# Altium footprint library DiodesTHD.PcbLib: 51 footprints (part 3 of 4)
Each footprint in its own frame and in the unit in brackets; x right, y up, seen from the top. Pads: shape width x height; smd on the part's side, far side on the other; paste and mask are expansions set on the pad; w line width, h text height; cw(c..) or ccw(c..) is an arc to the next point about the centre after c.
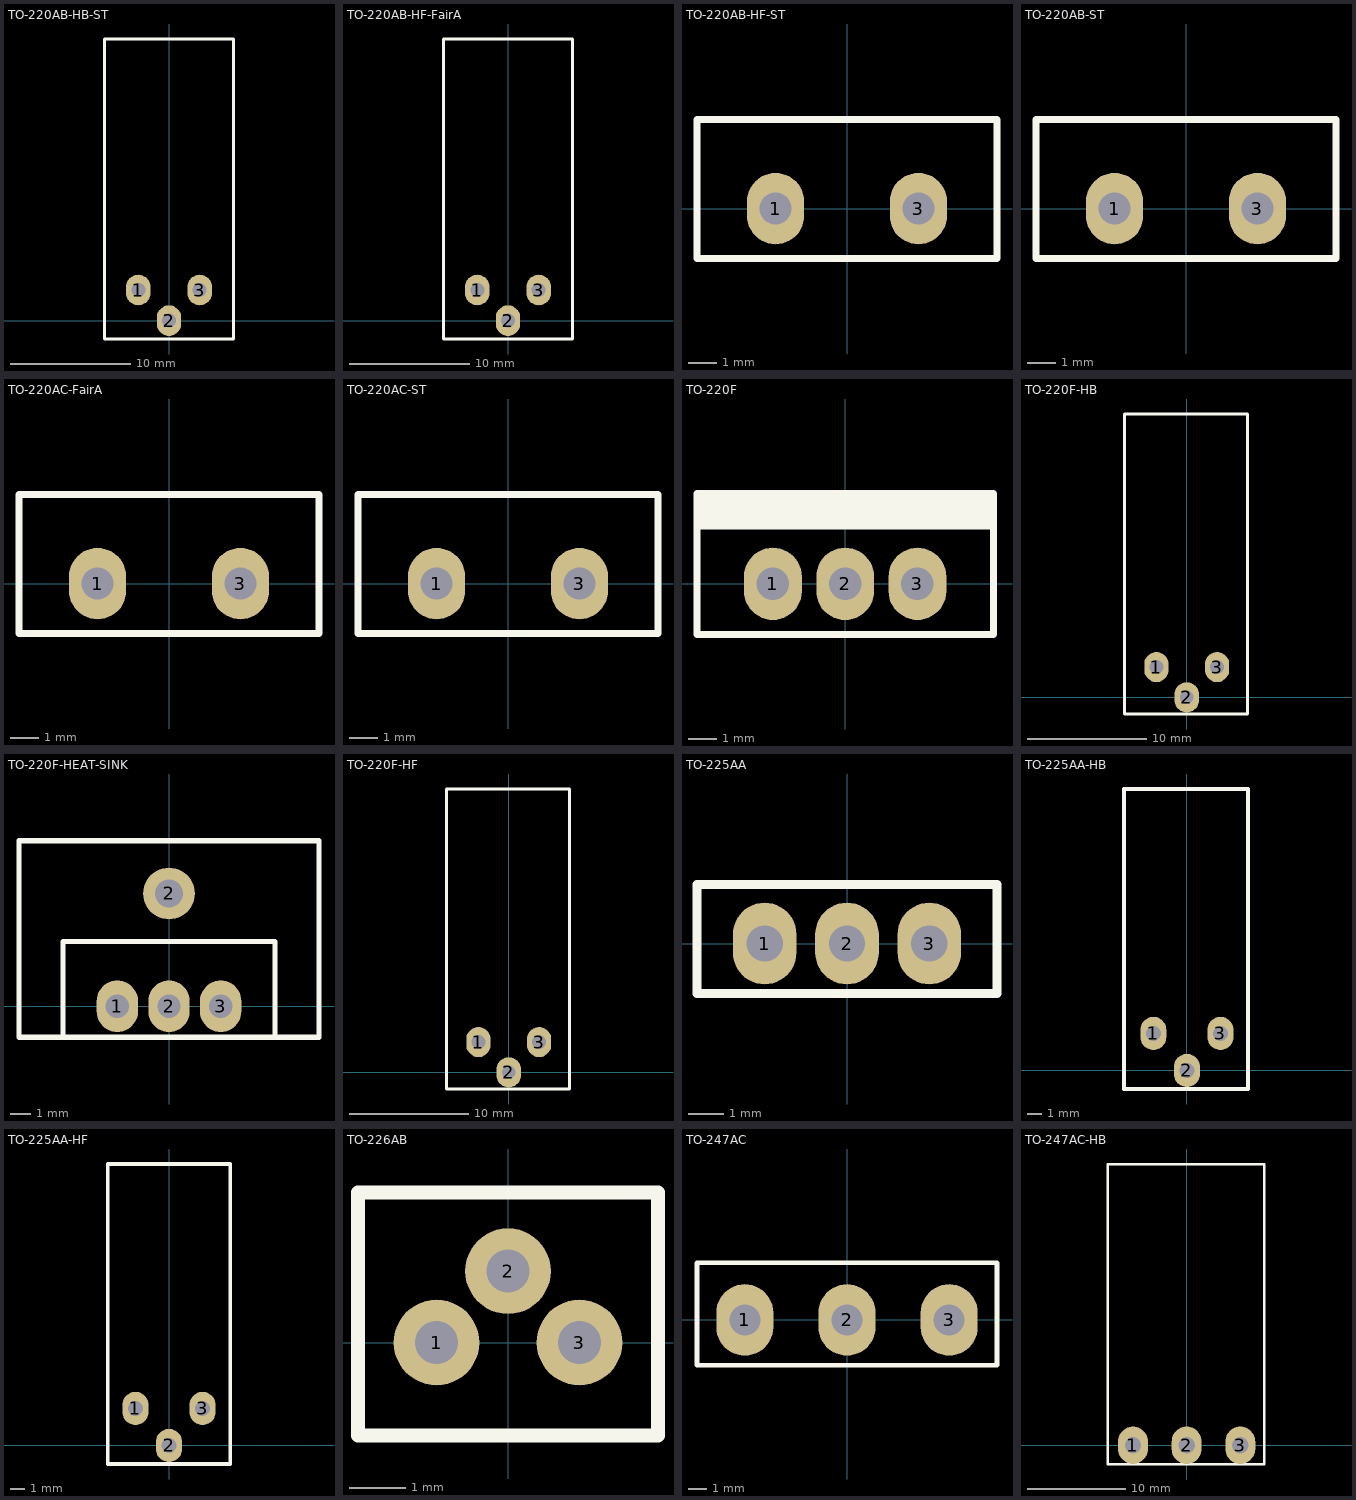
[diagram p2: the footprints below, top view; thin cyan lines are the x and y axes]

## TO-220AB-HB-ST [mil]
pads (3):
  oval 80x100 hole 45: 1(-100,100) 2(0,0) 3(100,100)
Top Overlay:
  lines w10: -210,-60 210,-60 210,920 -210,920 -210,-60
3D body "TO-220AB-HB-ST.stp": height 188.98, standoff -208.68, extent -209.64,-11.8 209.65,918.12

## TO-220AB-HF-FairA [mil]
pads (3):
  oval 80x100 hole 45: 1(-100,100) 2(0,0) 3(100,100)
Top Overlay:
  lines w10: -210,-60 210,-60 210,920 -210,920 -210,-60
3D body "TO-220AB-HF-FairA.stp": height 188.98, standoff -263.8, extent -209.64,-11.8 209.65,918.12

## TO-220AB-HF-ST [mil]
pads (2):
  oval 80x100 hole 45: 1(-100,0) 3(100,0)
Top Overlay:
  lines w10: -210,-70 210,-70 210,125 -210,125 -210,-70
3D body "TO-220AC-ST.stp": height 767.72, standoff -362.2, extent -209.64,-66.92 209.65,122.05

## TO-220AB-ST [mil]
pads (2):
  oval 80x100 hole 45: 1(-100,0) 3(100,0)
Top Overlay:
  lines w10: -210,-70 210,-70 210,125 -210,125 -210,-70
3D body "TO-220AC-ST.stp": height 767.72, standoff -362.2, extent -209.64,-66.92 209.65,122.05

## TO-220AC-FairA [mil]
pads (2):
  oval 80x100 hole 45: 1(-100,0) 3(100,0)
Top Overlay:
  lines w10: -210,-70 210,-70 210,125 -210,125 -210,-70
3D body "TO-220AC-FairA.stp": height 767.72, standoff -362.2, extent -209.64,-66.92 209.65,122.05

## TO-220AC-ST [mil]
pads (2):
  oval 80x100 hole 45: 1(-100,0) 3(100,0)
Top Overlay:
  lines w10: -210,-70 210,-70 210,125 -210,125 -210,-70
3D body "TO-220AC-ST.stp": height 767.72, standoff -362.2, extent -209.64,-66.92 209.65,122.05

## TO-220F [mil]
pads (3):
  oval 80x100 hole 45: 1(-100,0) 2(0,0) 3(100,0)
Top Overlay:
  rectangle: -205,75 210,125
  lines w10: -205,-70 205,-70 205,125 -205,125 -205,-70
3D body "TO-220F.stp": height 759.84, standoff -372.05, extent -203.93,-70.86 203.94,122.05

## TO-220F-HB [mil]
pads (3):
  oval 80x100 hole 45: 1(-100,100) 2(0,0) 3(100,100)
Top Overlay:
  lines w10: -205,-55 200,-55 200,935 -205,935 -205,-55
3D body "TO-220F-HB.stp": height 192.91, standoff -198.84, extent -203.93,-11.8 203.94,929.93

## TO-220F-HEAT-SINK [mil]
pads (4):
  oval 80x100 hole 45: 1(-100,0) 2(0,0) 3(100,0)
  round 100 hole 55: 2(0,218)
Top Overlay:
  lines w10: -290,-60 290,-60 290,320 -290,320 -290,-60 ; -205,-60 205,-60 205,125 -205,125 -205,-60
3D body "TO-220F.stp": height 759.84, standoff -372.05, extent -203.93,-70.86 203.94,122.05
3D body "TO220_Heat_sink.STEP": height 790, standoff -154.88, extent -287.4,-57.95 287.4,320

## TO-220F-HF [mil]
pads (3):
  oval 80x100 hole 45: 1(-100,100) 2(0,0) 3(100,100)
Top Overlay:
  lines w10: -205,-55 200,-55 200,935 -205,935 -205,-55
3D body "TO-220F-HF.stp": height 192.91, standoff -250.02, extent -203.93,-11.81 203.94,929.92

## TO-225AA [mil]
pads (3):
  oval 70x90 hole 40: 1(-90.55,0) 2(0,0) 3(90.55,0)
Top Overlay:
  lines w10: -165,-55 165,-55 165,65 -165,65 -165,-55
3D body "TO-225AA.stp": height 570, standoff -450.87, extent -164.95,-54.72 164.97,64.96

## TO-225AA-HB [mil]
pads (3):
  oval 70x90 hole 40: 1(-90.55,100) 2(0,0) 3(90.55,100)
Top Overlay:
  lines w10: -170,-50 165,-50 165,760 -170,760 -170,-50
3D body "TO-225AA-HB.stp": height 119.69, standoff -317.34, extent -164.96,-11.8 164.96,757.48

## TO-225AA-HF [mil]
pads (3):
  oval 70x90 hole 40: 1(-90.55,100) 2(0,0) 3(90.55,100)
Top Overlay:
  lines w10: -165,-50 165,-50 165,760 -165,760 -165,-50
3D body "TO-225AA-HF.stp": height 119.69, standoff -327.58, extent -164.96,-11.81 164.96,757.48

## TO-226AB [mil]
pads (3):
  round 60 hole 30: 1(-50,0) 2(0,50) 3(50,0)
Top Overlay:
  lines w10: -105,-65 105,-65 105,105 -105,105 -105,-65
3D body "TO-226AB.stp": height 426.38, standoff -282.28, extent -102.02,-61.02 101.98,102.37

## TO-247AC [mil]
pads (3):
  oval 120x150 hole 65: 1(-214.57,0) 2(0,0) 3(214.57,0)
Top Overlay:
  lines w10: -315,-95 315,-95 315,120 -315,120 -315,-95
3D body "TO-247AC.stp": height 1002.28, standoff -371.73, extent -312,-93.49 312.01,115.17

## TO-247AC-HB [mil]
pads (3):
  oval 120x150 hole 65: 1(-214.57,0) 2(0,0) 3(214.57,0)
Top Overlay:
  lines w10: -315,-75 310,-75 310,1125 -315,1125 -315,-75
3D body "TO-247AC-HB.stp": height 208.66, standoff -169.12, extent -312,-16.73 312.01,1116.54